# Altium schematic symbol library fastener.SchLib: 2 symbols
Pins are listed as number, name and electrical type; pins without a type are passive.

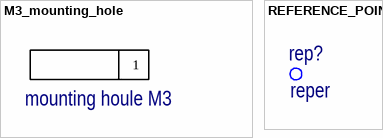
[diagram p0: symbols M3_mounting_hole to REFERENCE_POINT]

## M3_mounting_hole
designator ?, comment mounting houle M3
pins: 1

## REFERENCE_POINT
designator rep?, comment reper